# EAGLE library part PINHD-1X6 (library FansElectronics-Header)
PIN HEADER
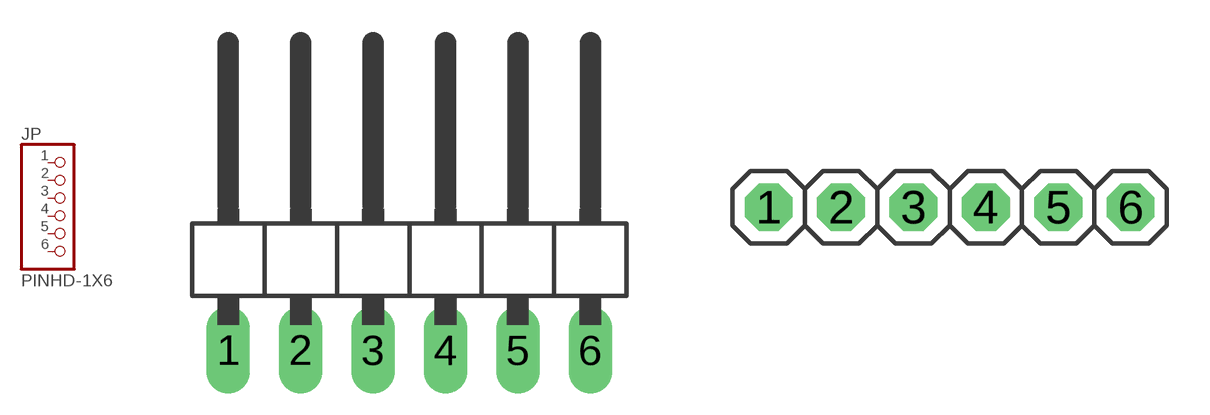
[diagram p29: symbol with the pads of 1X06/90; footprints 1X06/90, 1X06-O]

Designator prefix JP

## PINHD-1X6/90  [1X06/90]
1  1  pas
2  2  pas
3  3  pas
4  4  pas
5  5  pas
6  6  pas

## PINHD-1X6-O  [1X06-O]
Pads as for 1X06/90

## PINHD-1X6/90-O  [1X06/90-O]
Pads as for 1X06/90

## PINHD-1X6  [1X06]
Pads as for 1X06/90

## Footprint 1X06/90 (pad centres in mm)
PIN HEADER
drill 1.016 long: 1 -6.35,-3.81; 2 -3.81,-3.81; 3 -1.27,-3.81; 4 1.27,-3.81; 5 3.81,-3.81; 6 6.35,-3.81

## Footprint 1X06-O (pad centres in mm)
drill 1.016 pad 1.676 octagon: 1 -6.35,0; 2 -3.81,0; 3 -1.27,0; 4 1.27,0; 5 3.81,0; 6 6.35,0

## Footprint 1X06/90-O (pad centres in mm)
drill 1.016 pad 1.676 octagon: 1 -6.35,-2.54; 2 -3.81,-2.54; 3 -1.27,-2.54; 4 1.27,-2.54; 5 3.81,-2.54; 6 6.35,-2.54

## Footprint 1X06 (pad centres in mm)
PIN HEADER
drill 1.016 long: 1 -6.35,0; 2 -3.81,0; 3 -1.27,0; 4 1.27,0; 5 3.81,0; 6 6.35,0